# Altium footprint library Connectors.PcbLib: 17 footprints (part 1 of 2)
Each footprint in its own frame and in the unit in brackets; x right, y up, seen from the top. Pads: shape width x height; smd on the part's side, far side on the other; paste and mask are expansions set on the pad; w line width, h text height; cw(c..) or ccw(c..) is an arc to the next point about the centre after c.
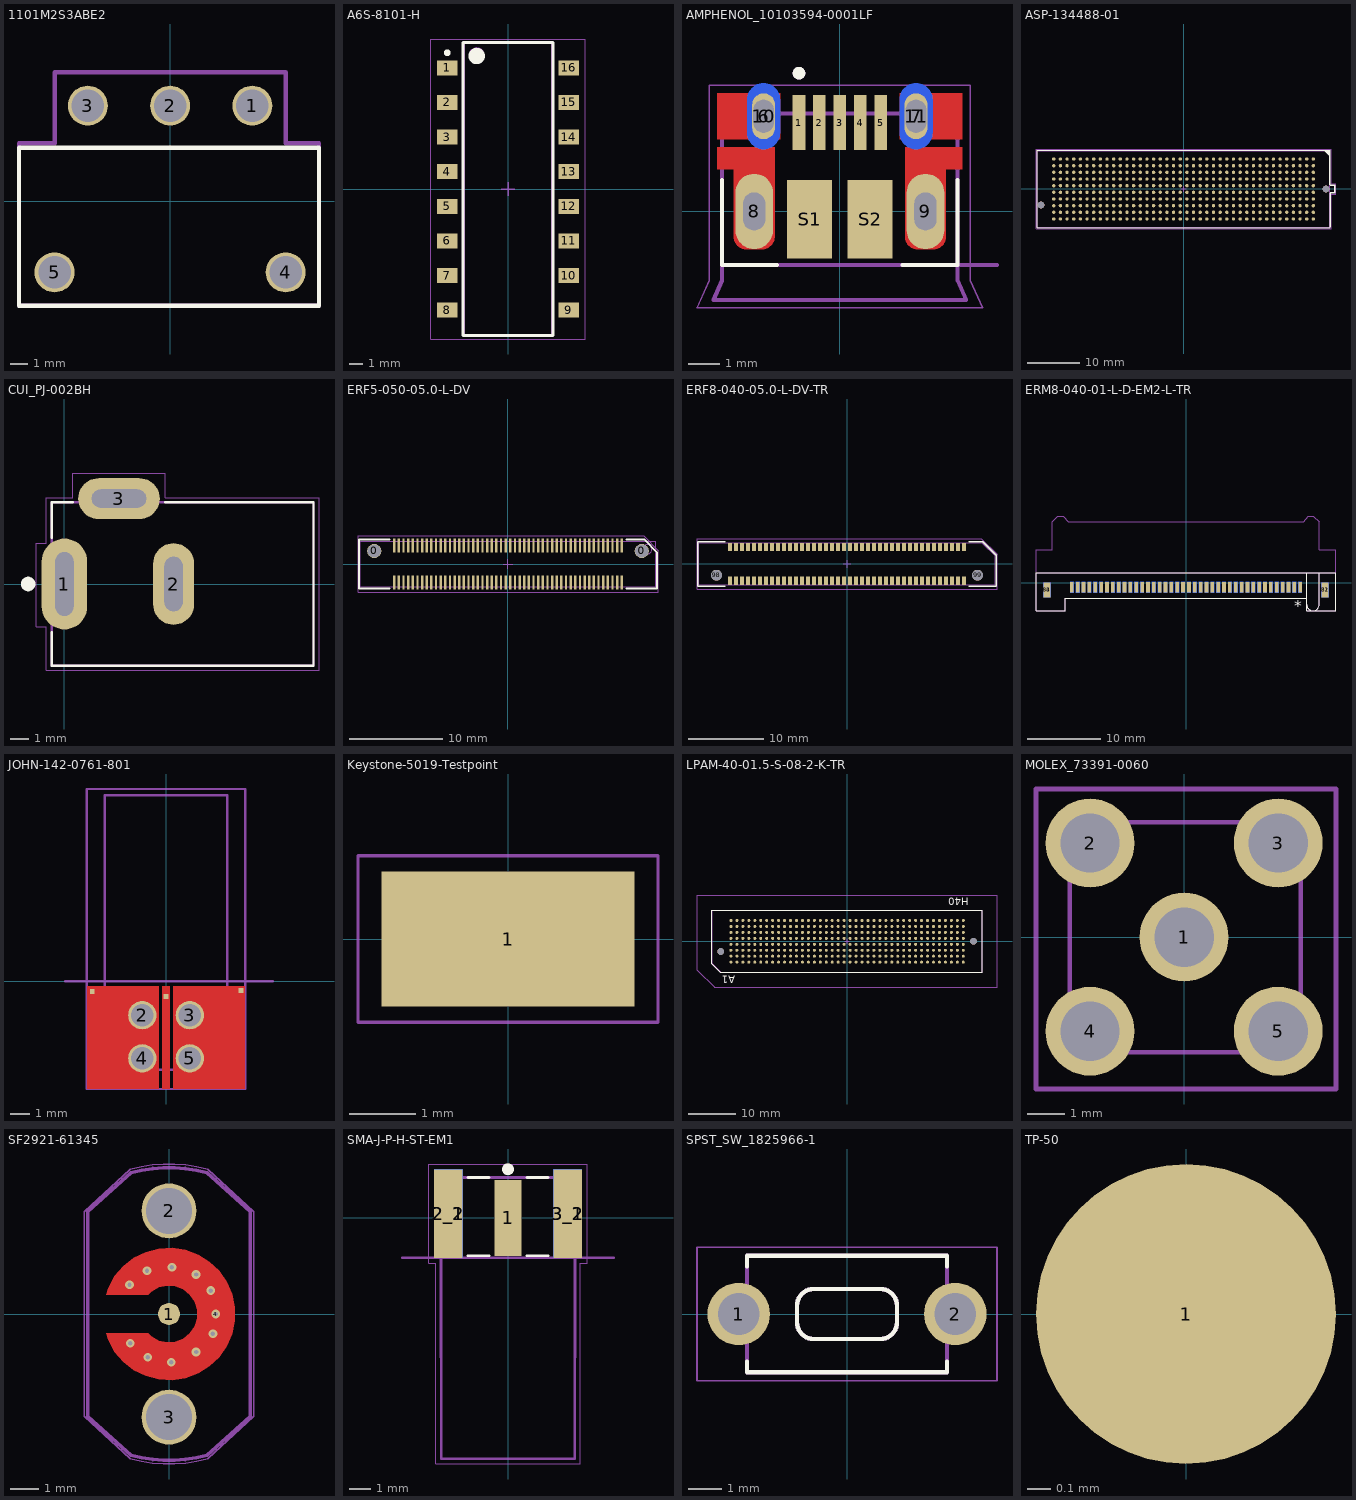
[diagram p0: the footprints below, top view; thin cyan lines are the x and y axes]

## 1101M2S3ABE2 [mil] "Horizontal Actuation SPDT Right Angle, PC THRU-HOLE"
height 260
pads (5):
  round 90 hole 73: 1(185,215) 2(0,215) 3(-185,215) 4(260,-160) 5(-260,-160)
Top Overlay:
  lines w10: -340,-235 335,-235 335,120 -340,120 -340,-235
Mechanical 13:
  lines w10: -340,-235 335,-235 335,130 260,130 260,290 -260,290 -260,130 -340,130 -340,-235
Mechanical 15:
  lines w10: -340,-235 -340,130 -260,130 -260,290 260,290 260,130 335,130 335,-235 -340,-235

## A6S-8101-H [mm] "SWITCH SLIDE DIP SPST, 8 Positions, IPC Medium Density"
height 3.1
pads (16):
  rect 1.5x1.1 smd: 1(-4.45,8.89) 2(-4.45,6.35) 3(-4.45,3.81) 4(-4.45,1.27) 5(-4.45,-1.27) 6(-4.45,-3.81) 7(-4.45,-6.35) 8(-4.45,-8.89) 9(4.45,-8.89) 10(4.45,-6.35) 11(4.45,-3.81) 12(4.45,-1.27) 13(4.45,1.27) 14(4.45,3.81) 15(4.45,6.35) 16(4.45,8.89)
Top Overlay:
  circle w0.25: c-4.45,9.99 r0.125
  circle w0.6: c-2.3,9.75 r0.3
  lines w0.2: -3.3,-10.75 -3.3,10.75 3.3,10.75 3.3,-10.75 -3.3,-10.75
Mechanical 13:
  circle w0.1: c-2.3,9.85 r0.5
  lines w0.1: -3.2,-10.75 -3.2,10.75 3.2,10.75 3.2,-10.75 -3.2,-10.75
Mechanical 15:
  lines w0.05: -5.65,-11 -5.65,11 5.65,11 5.65,-11 -5.65,-11
  lines w0.1: -0.5,0 0.5,0 ; 0,-0.5 0,0.5
3D body: height 3.1, standoff 0.25, extent -3.2,-10.75 3.2,10.75

## AMPHENOL_10103594-0001LF [mm] "USB - micro B USB 2.0 Receptacle Connector 5 Position Surface Mount, Right Angle; Through Hole"
pads (13):
  rect 0.4x1.75 smd mask+0.025: 1(-1.3,2.825) 2(-0.65,2.825) 3(0,2.825) 4(0.65,2.825) 5(1.3,2.825)
  oval 0.73x1.46 hole 0.65 slot 1.05 at 90 deg mask+0.025: 6(-2.425,3.03) 7(2.425,3.03)
  oval 1.2x2.4 hole 0.7 slot 1.2 at 90 deg mask+0.025: 8(-2.725,0) 9(2.725,0)
  oval 1.05x2.1 smd far side paste-2 mask+0: 10(-2.425,3.03) 11(2.425,3.03)
  rect 1.425x2.5 smd mask+0.025: S1(-0.962,-0.25) S2(0.962,-0.25)
Top Layer:
  region: 3.9,1.35 3.375,1.35 3.375,-0.8 3.374,-0.821 3.373,-0.842 3.37,-0.863 3.366,-0.883 3.361,-0.904 3.355,-0.924 3.348,-0.943 3.34,-0.963 3.331,-0.982 3.321,-1 3.31,-1.018 3.299,-1.035 3.286,-1.052 3.272,-1.068 3.258,-1.083 3.243,-1.097 3.227,-1.111 3.21,-1.124 3.193,-1.135 3.175,-1.146 3.157,-1.156 3.138,-1.165 3.118,-1.173 3.099,-1.18 3.079,-1.186 3.058,-1.191 3.038,-1.195 3.017,-1.198 2.996,-1.199 2.975,-1.2 2.475,-1.2 2.454,-1.199 2.433,-1.198 2.412,-1.195 2.392,-1.191 2.371,-1.186 2.351,-1.18 2.332,-1.173 2.312,-1.165 2.293,-1.156 2.275,-1.146 2.257,-1.135 2.24,-1.124 2.223,-1.111 2.207,-1.097 2.192,-1.083 2.178,-1.068 2.164,-1.052 2.151,-1.035 2.14,-1.018 2.129,-1 2.119,-0.982 2.11,-0.963 2.102,-0.943 2.095,-0.924 2.089,-0.904 2.084,-0.883 2.08,-0.863 2.077,-0.842 2.076,-0.821 2.075,-0.8 2.075,2.05 3.9,2.05
  region: -2.075,-0.8 -2.076,-0.821 -2.077,-0.842 -2.08,-0.863 -2.084,-0.883 -2.089,-0.904 -2.095,-0.924 -2.102,-0.943 -2.11,-0.963 -2.119,-0.982 -2.129,-1 -2.14,-1.018 -2.151,-1.035 -2.164,-1.052 -2.178,-1.068 -2.192,-1.083 -2.207,-1.097 -2.223,-1.111 -2.24,-1.124 -2.257,-1.135 -2.275,-1.146 -2.293,-1.156 -2.312,-1.165 -2.332,-1.173 -2.351,-1.18 -2.371,-1.186 -2.392,-1.191 -2.412,-1.195 -2.433,-1.198 -2.454,-1.199 -2.475,-1.2 -2.975,-1.2 -2.996,-1.199 -3.017,-1.198 -3.038,-1.195 -3.058,-1.191 -3.079,-1.186 -3.099,-1.18 -3.118,-1.173 -3.138,-1.165 -3.157,-1.156 -3.175,-1.146 -3.193,-1.135 -3.21,-1.124 -3.227,-1.111 -3.243,-1.097 -3.258,-1.083 -3.272,-1.068 -3.286,-1.052 -3.299,-1.035 -3.31,-1.018 -3.321,-1 -3.331,-0.982 -3.34,-0.963 -3.348,-0.943 -3.355,-0.924 -3.361,-0.904 -3.366,-0.883 -3.37,-0.863 -3.373,-0.842 -3.374,-0.821 -3.375,-0.8 -3.375,1.35 -3.9,1.35 -3.9,2.05 -2.075,2.05
  region: 3.9,2.3 1.9,2.3 1.9,3.76 3.9,3.76
  region: -1.9,2.3 -3.9,2.3 -3.9,3.76 -1.9,3.76
Top Overlay:
  circle w0.2: c-1.3,4.4 r0.1
  lines w0.127: -3.75,1 -3.75,-1.7 -1.995,-1.7 ; 1.995,-1.7 3.75,-1.7 3.75,1
Mechanical 1:
  lines w0: -2.745,-0.6 -2.705,-0.6 ; -2.745,0.6 -2.705,0.6 ; 2.705,-0.6 2.745,-0.6 ; 2.705,0.6 2.745,0.6
Mechanical 13:
  circle w0.2: c-1.3,4.4 r0.1
  lines w0.127: 5,-1.7 -3.75,-1.7 ; -3.75,-1.7 -3.75,-2.2 -4.02,-2.82 4.02,-2.82 3.75,-2.2 3.75,3.11 -3.75,3.11 -3.75,-1.7
  text "PCB EDGE" at 4.5,-1.5 h0.81
Mechanical 15:
  lines w0.05: -4.545,-3.07 -4.15,-2.2 -4.15,4.01 4.15,4.01 4.15,-2.2 4.545,-3.07 -4.545,-3.07
3D body "step_temp.STEP": height 3.13, standoff -0.47, extent -4.02,-4.149 4.02,1.884

## ASP-134488-01 [mm] "0.50 Pitch Terminal Array Assembly"
height 7.11
pads (400):
  round 0.64 smd: A1(24.765,5.715) A2(23.495,5.715) A3(22.225,5.715) A4(20.955,5.715) A5(19.685,5.715) A6(18.415,5.715) A7(17.145,5.715) A8(15.875,5.715) A9(14.605,5.715) A10(13.335,5.715) A11(12.065,5.715) A12(10.795,5.715) A13(9.525,5.715) A14(8.255,5.715) A15(6.985,5.715) A16(5.715,5.715) A17(4.445,5.715) A18(3.175,5.715) A19(1.905,5.715) A20(0.635,5.715) A21(-0.635,5.715) A22(-1.905,5.715) A23(-3.175,5.715) A24(-4.445,5.715) A25(-5.715,5.715) A26(-6.985,5.715) A27(-8.255,5.715) A28(-9.525,5.715) A29(-10.795,5.715) A30(-12.065,5.715) A31(-13.335,5.715) A32(-14.605,5.715) A33(-15.875,5.715) A34(-17.145,5.715) A35(-18.415,5.715) A36(-19.685,5.715) A37(-20.955,5.715) A38(-22.225,5.715) A39(-23.495,5.715) A40(-24.765,5.715) B1(24.765,4.445) B2(23.495,4.445) B3(22.225,4.445) B4(20.955,4.445) B5(19.685,4.445) B6(18.415,4.445) B7(17.145,4.445) B8(15.875,4.445) B9(14.605,4.445) B10(13.335,4.445) B11(12.065,4.445) B12(10.795,4.445) B13(9.525,4.445) B14(8.255,4.445) B15(6.985,4.445) B16(5.715,4.445) B17(4.445,4.445) B18(3.175,4.445) B19(1.905,4.445) B20(0.635,4.445) B21(-0.635,4.445) B22(-1.905,4.445) B23(-3.175,4.445) B24(-4.445,4.445) B25(-5.715,4.445) B26(-6.985,4.445) B27(-8.255,4.445) B28(-9.525,4.445) B29(-10.795,4.445) B30(-12.065,4.445) B31(-13.335,4.445) B32(-14.605,4.445) B33(-15.875,4.445) B34(-17.145,4.445) B35(-18.415,4.445) B36(-19.685,4.445) B37(-20.955,4.445) B38(-22.225,4.445) B39(-23.495,4.445) B40(-24.765,4.445) C1(24.765,3.175) C2(23.495,3.175) C3(22.225,3.175) C4(20.955,3.175) C5(19.685,3.175) C6(18.415,3.175) C7(17.145,3.175) C8(15.875,3.175) C9(14.605,3.175) C10(13.335,3.175) C11(12.065,3.175) C12(10.795,3.175) C13(9.525,3.175) C14(8.255,3.175) C15(6.985,3.175) C16(5.715,3.175) C17(4.445,3.175) C18(3.175,3.175) C19(1.905,3.175) C20(0.635,3.175) C21(-0.635,3.175) C22(-1.905,3.175) C23(-3.175,3.175) C24(-4.445,3.175) C25(-5.715,3.175) C26(-6.985,3.175) C27(-8.255,3.175) C28(-9.525,3.175) C29(-10.795,3.175) C30(-12.065,3.175) C31(-13.335,3.175) C32(-14.605,3.175) C33(-15.875,3.175) C34(-17.145,3.175) C35(-18.415,3.175) C36(-19.685,3.175) C37(-20.955,3.175) C38(-22.225,3.175) C39(-23.495,3.175) C40(-24.765,3.175) D1(24.765,1.905) D2(23.495,1.905) D3(22.225,1.905) D4(20.955,1.905) D5(19.685,1.905) D6(18.415,1.905) D7(17.145,1.905) D8(15.875,1.905) D9(14.605,1.905) D10(13.335,1.905) D11(12.065,1.905) D12(10.795,1.905) D13(9.525,1.905) D14(8.255,1.905) D15(6.985,1.905) D16(5.715,1.905) D17(4.445,1.905) D18(3.175,1.905) D19(1.905,1.905) D20(0.635,1.905) D21(-0.635,1.905) D22(-1.905,1.905) D23(-3.175,1.905) D24(-4.445,1.905) D25(-5.715,1.905) D26(-6.985,1.905) D27(-8.255,1.905) D28(-9.525,1.905) D29(-10.795,1.905) D30(-12.065,1.905) D31(-13.335,1.905) D32(-14.605,1.905) D33(-15.875,1.905) D34(-17.145,1.905) D35(-18.415,1.905) D36(-19.685,1.905) D37(-20.955,1.905) D38(-22.225,1.905) D39(-23.495,1.905) D40(-24.765,1.905) E1(24.765,0.635) E2(23.495,0.635) E3(22.225,0.635) E4(20.955,0.635) E5(19.685,0.635) E6(18.415,0.635) E7(17.145,0.635) E8(15.875,0.635) E9(14.605,0.635) E10(13.335,0.635) E11(12.065,0.635) E12(10.795,0.635) E13(9.525,0.635) E14(8.255,0.635) E15(6.985,0.635) E16(5.715,0.635) E17(4.445,0.635) E18(3.175,0.635) E19(1.905,0.635) E20(0.635,0.635) E21(-0.635,0.635) E22(-1.905,0.635) E23(-3.175,0.635) E24(-4.445,0.635) E25(-5.715,0.635) E26(-6.985,0.635) E27(-8.255,0.635) E28(-9.525,0.635) E29(-10.795,0.635) E30(-12.065,0.635) E31(-13.335,0.635) E32(-14.605,0.635) E33(-15.875,0.635) E34(-17.145,0.635) E35(-18.415,0.635) E36(-19.685,0.635) E37(-20.955,0.635) E38(-22.225,0.635) E39(-23.495,0.635) E40(-24.765,0.635) F1(24.765,-0.635) F2(23.495,-0.635) F3(22.225,-0.635) F4(20.955,-0.635) F5(19.685,-0.635) F6(18.415,-0.635) F7(17.145,-0.635) F8(15.875,-0.635) F9(14.605,-0.635) F10(13.335,-0.635) F11(12.065,-0.635) F12(10.795,-0.635) F13(9.525,-0.635) F14(8.255,-0.635) F15(6.985,-0.635) F16(5.715,-0.635) F17(4.445,-0.635) F18(3.175,-0.635) F19(1.905,-0.635) F20(0.635,-0.635) F21(-0.635,-0.635) F22(-1.905,-0.635) F23(-3.175,-0.635) F24(-4.445,-0.635) F25(-5.715,-0.635) F26(-6.985,-0.635) F27(-8.255,-0.635) F28(-9.525,-0.635) F29(-10.795,-0.635) F30(-12.065,-0.635) F31(-13.335,-0.635) F32(-14.605,-0.635) F33(-15.875,-0.635) F34(-17.145,-0.635) F35(-18.415,-0.635) F36(-19.685,-0.635) F37(-20.955,-0.635) F38(-22.225,-0.635) F39(-23.495,-0.635) F40(-24.765,-0.635) G1(24.765,-1.905) G2(23.495,-1.905) G3(22.225,-1.905) G4(20.955,-1.905) G5(19.685,-1.905) G6(18.415,-1.905) G7(17.145,-1.905) G8(15.875,-1.905) G9(14.605,-1.905) G10(13.335,-1.905) G11(12.065,-1.905) G12(10.795,-1.905) G13(9.525,-1.905) G14(8.255,-1.905) G15(6.985,-1.905) G16(5.715,-1.905) G17(4.445,-1.905) G18(3.175,-1.905) G19(1.905,-1.905) G20(0.635,-1.905) G21(-0.635,-1.905) G22(-1.905,-1.905) G23(-3.175,-1.905) G24(-4.445,-1.905) G25(-5.715,-1.905) G26(-6.985,-1.905) G27(-8.255,-1.905) G28(-9.525,-1.905) G29(-10.795,-1.905) G30(-12.065,-1.905) G31(-13.335,-1.905) G32(-14.605,-1.905) G33(-15.875,-1.905) G34(-17.145,-1.905) G35(-18.415,-1.905) G36(-19.685,-1.905) G37(-20.955,-1.905) G38(-22.225,-1.905) G39(-23.495,-1.905) G40(-24.765,-1.905) H1(24.765,-3.175) H2(23.495,-3.175) H3(22.225,-3.175) H4(20.955,-3.175) H5(19.685,-3.175) H6(18.415,-3.175) H7(17.145,-3.175) H8(15.875,-3.175) H9(14.605,-3.175) H10(13.335,-3.175) H11(12.065,-3.175) H12(10.795,-3.175) H13(9.525,-3.175) H14(8.255,-3.175) H15(6.985,-3.175) H16(5.715,-3.175) H17(4.445,-3.175) H18(3.175,-3.175) H19(1.905,-3.175) H20(0.635,-3.175) H21(-0.635,-3.175) H22(-1.905,-3.175) H23(-3.175,-3.175) H24(-4.445,-3.175) H25(-5.715,-3.175) H26(-6.985,-3.175) H27(-8.255,-3.175) H28(-9.525,-3.175) H29(-10.795,-3.175) H30(-12.065,-3.175) H31(-13.335,-3.175) H32(-14.605,-3.175) H33(-15.875,-3.175) H34(-17.145,-3.175) H35(-18.415,-3.175) H36(-19.685,-3.175) H37(-20.955,-3.175) H38(-22.225,-3.175) H39(-23.495,-3.175) H40(-24.765,-3.175) J1(24.765,-4.445) J2(23.495,-4.445) J3(22.225,-4.445) J4(20.955,-4.445) J5(19.685,-4.445) J6(18.415,-4.445) J7(17.145,-4.445) J8(15.875,-4.445) J9(14.605,-4.445) J10(13.335,-4.445) J11(12.065,-4.445) J12(10.795,-4.445) J13(9.525,-4.445) J14(8.255,-4.445) J15(6.985,-4.445) J16(5.715,-4.445) J17(4.445,-4.445) J18(3.175,-4.445) J19(1.905,-4.445) J20(0.635,-4.445) J21(-0.635,-4.445) J22(-1.905,-4.445) J23(-3.175,-4.445) J24(-4.445,-4.445) J25(-5.715,-4.445) J26(-6.985,-4.445) J27(-8.255,-4.445) J28(-9.525,-4.445) J29(-10.795,-4.445) J30(-12.065,-4.445) J31(-13.335,-4.445) J32(-14.605,-4.445) J33(-15.875,-4.445) J34(-17.145,-4.445) J35(-18.415,-4.445) J36(-19.685,-4.445) J37(-20.955,-4.445) J38(-22.225,-4.445) J39(-23.495,-4.445) J40(-24.765,-4.445) K1(24.765,-5.715) K2(23.495,-5.715) K3(22.225,-5.715) K4(20.955,-5.715) K5(19.685,-5.715) K6(18.415,-5.715) K7(17.145,-5.715) K8(15.875,-5.715) K9(14.605,-5.715) K10(13.335,-5.715) K11(12.065,-5.715) K12(10.795,-5.715) K13(9.525,-5.715) K14(8.255,-5.715) K15(6.985,-5.715) K16(5.715,-5.715) K17(4.445,-5.715) K18(3.175,-5.715) K19(1.905,-5.715) K20(0.635,-5.715) K21(-0.635,-5.715) K22(-1.905,-5.715) K23(-3.175,-5.715) K24(-4.445,-5.715) K25(-5.715,-5.715) K26(-6.985,-5.715) K27(-8.255,-5.715) K28(-9.525,-5.715) K29(-10.795,-5.715) K30(-12.065,-5.715) K31(-13.335,-5.715) K32(-14.605,-5.715) K33(-15.875,-5.715) K34(-17.145,-5.715) K35(-18.415,-5.715) K36(-19.685,-5.715) K37(-20.955,-5.715) K38(-22.225,-5.715) K39(-23.495,-5.715) K40(-24.765,-5.715)
via 27.19,0 diameter 1.27 hole 1.27
via -27.19,-3.05 diameter 1.27 hole 1.27
Top Overlay:
  region: 27.822,6.301 26.822,7.301 27.822,7.301
  lines w0.2: 27.9,-7.35 -27.9,-7.35 -27.9,7.35 27.9,7.35
  lines w0.254: 27.9,0.802 27.9,7.35 ; 27.94,-7.31 27.94,-0.762 28.829,-0.762 28.829,0.762 27.94,0.762
Mechanical 13:
  lines w0.1: -27.89,-7.34 27.89,-7.34 27.89,7.34 -27.89,7.34 -27.89,-7.34
Mechanical 15:
  lines w0.05: -28.15,-7.6 28.15,-7.6 28.15,-1.016 29.083,-1.016 29.083,1.016 28.15,1.016 28.15,7.6 -28.15,7.6 -28.15,-7.6
  lines w0.1: -0.5,0 0.5,0 ; 0,-0.5 0,0.5
3D body: height 7.11, standoff 1.02, extent -27.89,-7.34 27.89,7.34

## CUI_PJ-002BH [mm] "ONN PWR JACK 2.5X5.5MM SOLDER"
pads (3):
  oval 2.5x5 hole 1 slot 3.5 at 90 deg: 1(0,0)
  oval 2.25x4.5 hole 1 slot 3 at 90 deg: 2(6,0)
  oval 4.5x2.25 hole 1 slot 3 at 0 deg: 3(3,4.7)
Top Overlay:
  circle w0.4: c-2,0 r0.2
  lines w0.127: -0.7,-2.65 -0.7,-4.5 13.7,-4.5 13.7,4.5 5.55,4.5 ; -0.7,2.55 -0.7,4.5 0.45,4.5
Mechanical 1:
  lines w0: -0.5,-1.75 0.5,-1.75 0.5,1.75 -0.5,1.75 -0.5,-1.75 ; 1.5,4.2 1.5,5.2 4.5,5.2 4.5,4.2 1.5,4.2 ; 5.5,-1.5 6.5,-1.5 6.5,1.5 5.5,1.5 5.5,-1.5
Mechanical 13:
  lines w0.127: -0.7,-4.5 13.7,-4.5 ; -0.7,-4.5 -0.7,4.5 ; -0.7,-4.5 13.7,-4.5 ; -0.7,-4.5 -0.7,4.5 ; -0.7,4.5 13.7,4.5 ; -0.7,4.5 13.7,4.5 ; 13.7,-4.5 13.7,4.5 ; 13.7,-4.5 13.7,4.5
Mechanical 15:
  lines w0.05: -1.55,-2.35 -1.55,2.25 -1,2.25 -1,4.75 0.45,4.75 0.45,6.1 5.55,6.1 5.55,4.75 14,4.75 14,-4.75 -1,-4.75 -1,-2.35 -1.55,-2.35

## ERF5-050-05.0-L-DV [mm] "0.50 mm Edge Rate® Rugged High-Speed Socket Strip"
height 4.73
pads (102):
  round 1.53 hole 1.45 unplated paste-2539.97 mask+0: 0(-14.4,1.4) 0(14.4,1.4)
  rect 0.254x1.5 smd mask+0.051: 1(12.25,1.975) 2(12.25,-1.975) 3(11.75,1.975) 4(11.75,-1.975) 5(11.25,1.975) 6(11.25,-1.975) 7(10.75,1.975) 8(10.75,-1.975) 9(10.25,1.975) 10(10.25,-1.975) 11(9.75,1.975) 12(9.75,-1.975) 13(9.25,1.975) 14(9.25,-1.975) 15(8.75,1.975) 16(8.75,-1.975) 17(8.25,1.975) 18(8.25,-1.975) 19(7.75,1.975) 20(7.75,-1.975) 21(7.25,1.975) 22(7.25,-1.975) 23(6.75,1.975) 24(6.75,-1.975) 25(6.25,1.975) 26(6.25,-1.975) 27(5.75,1.975) 28(5.75,-1.975) 29(5.25,1.975) 30(5.25,-1.975) 31(4.75,1.975) 32(4.75,-1.975) 33(4.25,1.975) 34(4.25,-1.975) 35(3.75,1.975) 36(3.75,-1.975) 37(3.25,1.975) 38(3.25,-1.975) 39(2.75,1.975) 40(2.75,-1.975) 41(2.25,1.975) 42(2.25,-1.975) 43(1.75,1.975) 44(1.75,-1.975) 45(1.25,1.975) 46(1.25,-1.975) 47(0.75,1.975) 48(0.75,-1.975) 49(0.25,1.975) 50(0.25,-1.975) 51(-0.25,1.975) 52(-0.25,-1.975) 53(-0.75,1.975) 54(-0.75,-1.975) 55(-1.25,1.975) 56(-1.25,-1.975) 57(-1.75,1.975) 58(-1.75,-1.975) 59(-2.25,1.975) 60(-2.25,-1.975) 61(-2.75,1.975) 62(-2.75,-1.975) 63(-3.25,1.975) 64(-3.25,-1.975) 65(-3.75,1.975) 66(-3.75,-1.975) 67(-4.25,1.975) 68(-4.25,-1.975) 69(-4.75,1.975) 70(-4.75,-1.975) 71(-5.25,1.975) 72(-5.25,-1.975) 73(-5.75,1.975) 74(-5.75,-1.975) 75(-6.25,1.975) 76(-6.25,-1.975) 77(-6.75,1.975) 78(-6.75,-1.975) 79(-7.25,1.975) 80(-7.25,-1.975) 81(-7.75,1.975) 82(-7.75,-1.975) 83(-8.25,1.975) 84(-8.25,-1.975) 85(-8.75,1.975) 86(-8.75,-1.975) 87(-9.25,1.975) 88(-9.25,-1.975) 89(-9.75,1.975) 90(-9.75,-1.975) 91(-10.25,1.975) 92(-10.25,-1.975) 93(-10.75,1.975) 94(-10.75,-1.975) 95(-11.25,1.975) 96(-11.25,-1.975) 97(-11.75,1.975) 98(-11.75,-1.975) 99(-12.25,1.975) 100(-12.25,-1.975)
Top Overlay:
  lines w0.2: -12.777,-2.625 -16.05,-2.625 -16.05,2.625 -12.777,2.625 ; 12.777,-2.625 16.05,-2.625 16.05,1.225 14.7,2.625 12.777,2.625
Mechanical 13:
  circle w0.1: c15,1.575 r0.5
  lines w0.1: -15.9,-2.475 -15.9,2.475 15.9,2.475 15.9,-2.475 -15.9,-2.475
Mechanical 15:
  lines w0.05: -16.15,-3.06 -16.15,3.06 14.6,3.06 16.15,1.45 16.15,-3.06 -16.15,-3.06
  lines w0.1: -0.5,0 0.5,0 ; 0,-0.5 0,0.5
3D body: height 4.73, standoff 0.13, extent -15.9,-2.475 15.9,2.475

## ERF8-040-05.0-L-DV-TR [mm] "0.80 mm Edge Rate® Rugged High-Speed Socket Strip"
height 7.25
pads (82):
  rect 0.5x1.1 smd: 1(15.6,2.25) 2(15.6,-2.25) 3(14.8,2.25) 4(14.8,-2.25) 5(14,2.25) 6(14,-2.25) 7(13.2,2.25) 8(13.2,-2.25) 9(12.4,2.25) 10(12.4,-2.25) 11(11.6,2.25) 12(11.6,-2.25) 13(10.8,2.25) 14(10.8,-2.25) 15(10,2.25) 16(10,-2.25) 17(9.2,2.25) 18(9.2,-2.25) 19(8.4,2.25) 20(8.4,-2.25) 21(7.6,2.25) 22(7.6,-2.25) 23(6.8,2.25) 24(6.8,-2.25) 25(6,2.25) 26(6,-2.25) 27(5.2,2.25) 28(5.2,-2.25) 29(4.4,2.25) 30(4.4,-2.25) 31(3.6,2.25) 32(3.6,-2.25) 33(2.8,2.25) 34(2.8,-2.25) 35(2,2.25) 36(2,-2.25) 37(1.2,2.25) 38(1.2,-2.25) 39(0.4,2.25) 40(0.4,-2.25) 41(-0.4,2.25) 42(-0.4,-2.25) 43(-1.2,2.25) 44(-1.2,-2.25) 45(-2,2.25) 46(-2,-2.25) 47(-2.8,2.25) 48(-2.8,-2.25) 49(-3.6,2.25) 50(-3.6,-2.25) 51(-4.4,2.25) 52(-4.4,-2.25) 53(-5.2,2.25) 54(-5.2,-2.25) 55(-6,2.25) 56(-6,-2.25) 57(-6.8,2.25) 58(-6.8,-2.25) 59(-7.6,2.25) 60(-7.6,-2.25) 61(-8.4,2.25) 62(-8.4,-2.25) 63(-9.2,2.25) 64(-9.2,-2.25) 65(-10,2.25) 66(-10,-2.25) 67(-10.8,2.25) 68(-10.8,-2.25) 69(-11.6,2.25) 70(-11.6,-2.25) 71(-12.4,2.25) 72(-12.4,-2.25) 73(-13.2,2.25) 74(-13.2,-2.25) 75(-14,2.25) 76(-14,-2.25) 77(-14.8,2.25) 78(-14.8,-2.25) 79(-15.6,2.25) 80(-15.6,-2.25)
  round 1.448 hole 1.448 unplated paste-2539.97: 98(-17.4,-1.5) 99(17.4,-1.5)
Top Overlay:
  lines w0.2: -16.25,-2.95 -19.9,-2.95 -19.9,2.95 -16.25,2.95 ; 16.25,-2.95 19.9,-2.95 19.9,1.182 18.132,2.95 16.25,2.95
Mechanical 13:
  lines w0.1: 18.034,2.794 19.75,1.078 19.75,-2.8 -19.75,-2.8 -19.75,2.8 18.034,2.8
Mechanical 15:
  lines w0.05: -20,-3.385 20,-3.385 20,1.3 19.479,1.821 18.436,2.864 17.915,3.385 -20,3.385 -20,-3.385
  lines w0.1: -0.5,0 0.5,0 ; 0,-0.5 0,0.5
3D body: height 7.25, standoff 0.64, extent -19.75,-2.794 19.75,2.806

## ERM8-040-01-L-D-EM2-L-TR [mm] "0.80 mm Edge Rate® Rugged High-Speed Socket Strip, Edge Mount"
pads (84):
  rect 0.5x1.45 smd paste-0.07 mask+0: 1(15.6,-0.63) 3(14.8,-0.63) 5(14,-0.63) 7(13.2,-0.63) 9(12.4,-0.63) 11(11.6,-0.63) 13(10.8,-0.63) 15(10,-0.63) 17(9.2,-0.63) 19(8.4,-0.63) 21(7.6,-0.63) 23(6.8,-0.63) 25(6,-0.63) 27(5.2,-0.63) 29(4.4,-0.63) 31(3.6,-0.63) 33(2.8,-0.63) 35(2,-0.63) 37(1.2,-0.63) 39(0.4,-0.63) 41(-0.4,-0.63) 43(-1.2,-0.63) 45(-2,-0.63) 47(-2.8,-0.63) 49(-3.6,-0.63) 51(-4.4,-0.63) 53(-5.2,-0.63) 55(-6,-0.63) 57(-6.8,-0.63) 59(-7.6,-0.63) 61(-8.4,-0.63) 63(-9.2,-0.63) 65(-10,-0.63) 67(-10.8,-0.63) 69(-11.6,-0.63) 71(-12.4,-0.63) 73(-13.2,-0.63) 75(-14,-0.63) 77(-14.8,-0.63) 79(-15.6,-0.63)
  rect 0.5x1.45 smd far side paste-0.07 mask+0: 2(15.6,-0.63) 4(14.8,-0.63) 6(14,-0.63) 8(13.2,-0.63) 10(12.4,-0.63) 12(11.6,-0.63) 14(10.8,-0.63) 16(10,-0.63) 18(9.2,-0.63) 20(8.4,-0.63) 22(7.6,-0.63) 24(6.8,-0.63) 26(6,-0.63) 28(5.2,-0.63) 30(4.4,-0.63) 32(3.6,-0.63) 34(2.8,-0.63) 36(2,-0.63) 38(1.2,-0.63) 40(0.4,-0.63) 42(-0.4,-0.63) 44(-1.2,-0.63) 46(-2,-0.63) 48(-2.8,-0.63) 50(-3.6,-0.63) 52(-4.4,-0.63) 54(-5.2,-0.63) 56(-6,-0.63) 58(-6.8,-0.63) 60(-7.6,-0.63) 62(-8.4,-0.63) 64(-9.2,-0.63) 66(-10,-0.63) 68(-10.8,-0.63) 70(-11.6,-0.63) 72(-12.4,-0.63) 74(-13.2,-0.63) 76(-14,-0.63) 78(-14.8,-0.63) 80(-15.6,-0.63)
  rect 1x2 smd paste-0.07 mask+0: 81(19,-1) 83(-19,-1)
  rect 1x2 smd far side paste-0.07 mask+0: 82(19,-1) 84(-19,-1)
Top Overlay:
  lines w0.1: 16.5,1.35 16.5,-3 ccw(c17.35,-3) 18.2,-3 18.2,1.35 ; -20.5,-3.85 -20.5,1.35 20.5,1.35 20.5,-3.85 16.5,-3.85 16.5,-2.1 -16.5,-2.1 -16.5,-3.85 -20.5,-3.85
  text "*" at 14.8,-4 h1.52
Bottom Overlay:
  lines w0.1: 16.5,1.35 16.5,-3 ccw(c17.35,-3) 18.2,-3 18.2,1.35 ; -20.5,-3.85 -20.5,1.35 20.5,1.35 20.5,-3.85 16.5,-3.85 16.5,-2.1 -16.5,-2.1 -16.5,-3.85 -20.5,-3.85
Mechanical 13:
  lines w0.1: 16.5,1.35 16.5,-3 ccw(c17.35,-3) 18.2,-3 18.2,1.35 ; 20.5,1.35 -20.5,1.35 ; -20.5,1.35 -20.5,4.5 -18.3,4.5 -18.3,8.3 -17.5,9.1 -16.8,9.1 -16.1,8.3 16.1,8.3 16.7,9.1 17.4,9.1 18.2,8.3 18.2,4.5 20.5,4.5 20.5,-3.85 16.5,-3.85 16.5,-2.1 -16.5,-2.1 -16.5,-3.85 -20.5,-3.85 -20.5,1.35

## JOHN-142-0761-801 [mil] "CONN SMA JACK STR 50OHM EDGE MNT"
pads (7):
  rect 10x10 smd paste-10 mask+4: 1(0,-31) 6(-149,-21) 7(151,-19)
  round 57 hole 45: 2(-48,-69) 3(48,-69) 4(-48,-156) 5(48,-156)
Top Layer:
  rectangle: -160,-218 -14.5,-10
  rectangle: 14.5,-218 160,-10
  rectangle: -8.5,-218 8.5,-10
Mechanical 13:
  lines w5: -204,0 216,0 ; -123.5,-179 123.5,-179 123.5,375 -123.5,375 -123.5,-179
Mechanical 15:
  lines w5: -160,-218 -160,388 160.42,388 160.42,-218 -160,-218

## Keystone-5019-Testpoint [mm] "Keystone-5019-Testpoint"
pads (1):
  rect 3.8x2.03 smd: 1(0,0)
Mechanical 15:
  lines w0.05: -2.25,-1.25 2.25,-1.25 2.25,1.25 -2.25,1.25 -2.25,-1.25

## LPAM-40-01.5-S-08-2-K-TR [mm] ".050\" LP Array™ High-Speed High-Density Low Profile Open-Pin-Field Array, Terminal"
height 7.11
pads (320):
  round 0.64 smd: A1(-24.765,-4.445) A2(-23.495,-4.445) A3(-22.225,-4.445) A4(-20.955,-4.445) A5(-19.685,-4.445) A6(-18.415,-4.445) A7(-17.145,-4.445) A8(-15.875,-4.445) A9(-14.605,-4.445) A10(-13.335,-4.445) A11(-12.065,-4.445) A12(-10.795,-4.445) A13(-9.525,-4.445) A14(-8.255,-4.445) A15(-6.985,-4.445) A16(-5.715,-4.445) A17(-4.445,-4.445) A18(-3.175,-4.445) A19(-1.905,-4.445) A20(-0.635,-4.445) A21(0.635,-4.445) A22(1.905,-4.445) A23(3.175,-4.445) A24(4.445,-4.445) A25(5.715,-4.445) A26(6.985,-4.445) A27(8.255,-4.445) A28(9.525,-4.445) A29(10.795,-4.445) A30(12.065,-4.445) A31(13.335,-4.445) A32(14.605,-4.445) A33(15.875,-4.445) A34(17.145,-4.445) A35(18.415,-4.445) A36(19.685,-4.445) A37(20.955,-4.445) A38(22.225,-4.445) A39(23.495,-4.445) A40(24.765,-4.445) B1(-24.765,-3.175) B2(-23.495,-3.175) B3(-22.225,-3.175) B4(-20.955,-3.175) B5(-19.685,-3.175) B6(-18.415,-3.175) B7(-17.145,-3.175) B8(-15.875,-3.175) B9(-14.605,-3.175) B10(-13.335,-3.175) B11(-12.065,-3.175) B12(-10.795,-3.175) B13(-9.525,-3.175) B14(-8.255,-3.175) B15(-6.985,-3.175) B16(-5.715,-3.175) B17(-4.445,-3.175) B18(-3.175,-3.175) B19(-1.905,-3.175) B20(-0.635,-3.175) B21(0.635,-3.175) B22(1.905,-3.175) B23(3.175,-3.175) B24(4.445,-3.175) B25(5.715,-3.175) B26(6.985,-3.175) B27(8.255,-3.175) B28(9.525,-3.175) B29(10.795,-3.175) B30(12.065,-3.175) B31(13.335,-3.175) B32(14.605,-3.175) B33(15.875,-3.175) B34(17.145,-3.175) B35(18.415,-3.175) B36(19.685,-3.175) B37(20.955,-3.175) B38(22.225,-3.175) B39(23.495,-3.175) B40(24.765,-3.175) C1(-24.765,-1.905) C2(-23.495,-1.905) C3(-22.225,-1.905) C4(-20.955,-1.905) C5(-19.685,-1.905) C6(-18.415,-1.905) C7(-17.145,-1.905) C8(-15.875,-1.905) C9(-14.605,-1.905) C10(-13.335,-1.905) C11(-12.065,-1.905) C12(-10.795,-1.905) C13(-9.525,-1.905) C14(-8.255,-1.905) C15(-6.985,-1.905) C16(-5.715,-1.905) C17(-4.445,-1.905) C18(-3.175,-1.905) C19(-1.905,-1.905) C20(-0.635,-1.905) C21(0.635,-1.905) C22(1.905,-1.905) C23(3.175,-1.905) C24(4.445,-1.905) C25(5.715,-1.905) C26(6.985,-1.905) C27(8.255,-1.905) C28(9.525,-1.905) C29(10.795,-1.905) C30(12.065,-1.905) C31(13.335,-1.905) C32(14.605,-1.905) C33(15.875,-1.905) C34(17.145,-1.905) C35(18.415,-1.905) C36(19.685,-1.905) C37(20.955,-1.905) C38(22.225,-1.905) C39(23.495,-1.905) C40(24.765,-1.905) D1(-24.765,-0.635) D2(-23.495,-0.635) D3(-22.225,-0.635) D4(-20.955,-0.635) D5(-19.685,-0.635) D6(-18.415,-0.635) D7(-17.145,-0.635) D8(-15.875,-0.635) D9(-14.605,-0.635) D10(-13.335,-0.635) D11(-12.065,-0.635) D12(-10.795,-0.635) D13(-9.525,-0.635) D14(-8.255,-0.635) D15(-6.985,-0.635) D16(-5.715,-0.635) D17(-4.445,-0.635) D18(-3.175,-0.635) D19(-1.905,-0.635) D20(-0.635,-0.635) D21(0.635,-0.635) D22(1.905,-0.635) D23(3.175,-0.635) D24(4.445,-0.635) D25(5.715,-0.635) D26(6.985,-0.635) D27(8.255,-0.635) D28(9.525,-0.635) D29(10.795,-0.635) D30(12.065,-0.635) D31(13.335,-0.635) D32(14.605,-0.635) D33(15.875,-0.635) D34(17.145,-0.635) D35(18.415,-0.635) D36(19.685,-0.635) D37(20.955,-0.635) D38(22.225,-0.635) D39(23.495,-0.635) D40(24.765,-0.635) E1(-24.765,0.635) E2(-23.495,0.635) E3(-22.225,0.635) E4(-20.955,0.635) E5(-19.685,0.635) E6(-18.415,0.635) E7(-17.145,0.635) E8(-15.875,0.635) E9(-14.605,0.635) E10(-13.335,0.635) E11(-12.065,0.635) E12(-10.795,0.635) E13(-9.525,0.635) E14(-8.255,0.635) E15(-6.985,0.635) E16(-5.715,0.635) E17(-4.445,0.635) E18(-3.175,0.635) E19(-1.905,0.635) E20(-0.635,0.635) E21(0.635,0.635) E22(1.905,0.635) E23(3.175,0.635) E24(4.445,0.635) E25(5.715,0.635) E26(6.985,0.635) E27(8.255,0.635) E28(9.525,0.635) E29(10.795,0.635) E30(12.065,0.635) E31(13.335,0.635) E32(14.605,0.635) E33(15.875,0.635) E34(17.145,0.635) E35(18.415,0.635) E36(19.685,0.635) E37(20.955,0.635) E38(22.225,0.635) E39(23.495,0.635) E40(24.765,0.635) F1(-24.765,1.905) F2(-23.495,1.905) F3(-22.225,1.905) F4(-20.955,1.905) F5(-19.685,1.905) F6(-18.415,1.905) F7(-17.145,1.905) F8(-15.875,1.905) F9(-14.605,1.905) F10(-13.335,1.905) F11(-12.065,1.905) F12(-10.795,1.905) F13(-9.525,1.905) F14(-8.255,1.905) F15(-6.985,1.905) F16(-5.715,1.905) F17(-4.445,1.905) F18(-3.175,1.905) F19(-1.905,1.905) F20(-0.635,1.905) F21(0.635,1.905) F22(1.905,1.905) F23(3.175,1.905) F24(4.445,1.905) F25(5.715,1.905) F26(6.985,1.905) F27(8.255,1.905) F28(9.525,1.905) F29(10.795,1.905) F30(12.065,1.905) F31(13.335,1.905) F32(14.605,1.905) F33(15.875,1.905) F34(17.145,1.905) F35(18.415,1.905) F36(19.685,1.905) F37(20.955,1.905) F38(22.225,1.905) F39(23.495,1.905) F40(24.765,1.905) G1(-24.765,3.175) G2(-23.495,3.175) G3(-22.225,3.175) G4(-20.955,3.175) G5(-19.685,3.175) G6(-18.415,3.175) G7(-17.145,3.175) G8(-15.875,3.175) G9(-14.605,3.175) G10(-13.335,3.175) G11(-12.065,3.175) G12(-10.795,3.175) G13(-9.525,3.175) G14(-8.255,3.175) G15(-6.985,3.175) G16(-5.715,3.175) G17(-4.445,3.175) G18(-3.175,3.175) G19(-1.905,3.175) G20(-0.635,3.175) G21(0.635,3.175) G22(1.905,3.175) G23(3.175,3.175) G24(4.445,3.175) G25(5.715,3.175) G26(6.985,3.175) G27(8.255,3.175) G28(9.525,3.175) G29(10.795,3.175) G30(12.065,3.175) G31(13.335,3.175) G32(14.605,3.175) G33(15.875,3.175) G34(17.145,3.175) G35(18.415,3.175) G36(19.685,3.175) G37(20.955,3.175) G38(22.225,3.175) G39(23.495,3.175) G40(24.765,3.175) H1(-24.765,4.445) H2(-23.495,4.445) H3(-22.225,4.445) H4(-20.955,4.445) H5(-19.685,4.445) H6(-18.415,4.445) H7(-17.145,4.445) H8(-15.875,4.445) H9(-14.605,4.445) H10(-13.335,4.445) H11(-12.065,4.445) H12(-10.795,4.445) H13(-9.525,4.445) H14(-8.255,4.445) H15(-6.985,4.445) H16(-5.715,4.445) H17(-4.445,4.445) H18(-3.175,4.445) H19(-1.905,4.445) H20(-0.635,4.445) H21(0.635,4.445) H22(1.905,4.445) H23(3.175,4.445) H24(4.445,4.445) H25(5.715,4.445) H26(6.985,4.445) H27(8.255,4.445) H28(9.525,4.445) H29(10.795,4.445) H30(12.065,4.445) H31(13.335,4.445) H32(14.605,4.445) H33(15.875,4.445) H34(17.145,4.445) H35(18.415,4.445) H36(19.685,4.445) H37(20.955,4.445) H38(22.225,4.445) H39(23.495,4.445) H40(24.765,4.445)
via -26.949,-2.159 diameter 1.448 hole 1.448
via 26.949,0 diameter 1.448 hole 1.448
Top Overlay:
  lines w0.254: -28.829,-4.833 -28.829,6.604 28.829,6.604 28.829,-6.604 -27.046,-6.604 -28.829,-4.833
  text "A1" at -23.876,-7.366 h1.52
  text "H40" at 25.908,9.271 h1.52
Mechanical 13:
  lines w0.254: -27.026,-6.629 -26.949,-6.629 ; -26.949,-6.629 28.778,-6.629 28.778,6.629 -28.778,6.629 -28.778,-4.801 -26.949,-6.629
Mechanical 15:
  lines w0.1: -0.5,0 0.5,0 ; 0,-0.5 0,0.5
  lines w0.254: -32.004,-6.096 -31.979,-6.096 ; -28.296,-9.804 -28.27,-9.804 ; -31.953,9.804 -31.953,-6.121 -31.953,9.804 ; -31.953,9.804 31.953,9.804 ; -31.953,9.804 31.953,9.804 ; -28.27,-9.804 -31.979,-6.121 -28.27,-9.804 ; -28.27,-9.804 31.953,-9.804 ; -28.27,-9.804 31.953,-9.804 ; 31.953,-9.804 31.953,9.804 ; 31.953,-9.804 31.953,9.804

## MOLEX_73391-0060 [mm] "CONN SMA RCPT STR 50 OHM PCB"
pads (5):
  round 2.4 hole 1.6: 1(0,0) 2(-2.54,2.54) 3(2.54,2.54) 4(-2.54,-2.54) 5(2.54,-2.54)
Mechanical 13:
  lines w0.127: -3.105,-3.105 3.105,-3.105 ; -3.1,3.1 -3.09,3.1 ; -3.09,-3.11 -3.09,3.1 ; 3.1,3.1 -3.09,3.1 ; 3.12,-3.1 3.15,-3.1 3.15,3.1
Mechanical 15:
  lines w0.127: -4,-4.1 -4,4 4.1,4 4.1,-4.1 -4,-4.1

## SF2921-61345 [mil] "SMA JACK 2 HOLE FLANGE  WITH 0-80 UNF THREAD"
pads (4):
  round 30 smd paste-99999 mask+0: 1(0,0)
  round 75 hole 63: 2(0,141) 3(0,-141)
  round 10 smd paste-99999 mask+4: 4(64,0)
via -53,-40 diameter 12 hole 6
via 64,0 diameter 12 hole 6
via -29,-59 diameter 12 hole 6
via 3,-66 diameter 12 hole 6
via 37,-52 diameter 12 hole 6
via -54,40 diameter 12 hole 6
via 60,-27 diameter 12 hole 6
via 37,54 diameter 12 hole 6
via 57,32 diameter 12 hole 6
via -30,59 diameter 12 hole 6
via 4,64 diameter 12 hole 6
Top Layer:
  region: -86.01,-26.5 -28.61,-26.5 -24.34,-30.47 -14.28,-36.29 -2.94,-38.89 8.66,-38.03 19.49,-33.78 28.58,-26.54 35.13,-16.93 38.56,-5.81 38.56,5.81 35.13,16.93 28.58,26.54 19.49,33.78 8.66,38.03 -2.94,38.89 -14.28,36.29 -24.34,30.47 -28.61,26.5 -86.01,26.5 -83.31,35.26 -74.49,51.34 -62.6,65.3 -48.15,76.59 -31.72,84.72 -13.98,89.38 4.33,90.36 22.47,87.63 39.68,81.3 55.26,71.63 68.57,59.02 79.06,43.98 86.3,27.13 90,9.17 90,-9.17 86.3,-27.13 79.06,-43.98 68.57,-59.02 55.26,-71.63 39.68,-81.3 22.47,-87.63 4.33,-90.36 -13.98,-89.38 -31.72,-84.72 -48.15,-76.59 -62.6,-65.3 -74.49,-51.34 -83.31,-35.26
Mechanical 13:
  lines w5: -111,-140 -51.76,-193.19 ccw(c0,0) 51.76,-193.19 111,-140 111,140 51.76,193.19 ccw(c0,0) -51.76,193.19 -111,140 -111,-140
Mechanical 15:
  lines w2: -116,-140 -116,140 -53.06,198.01 cw(c0,0) 53.06,198.01 116,140 116,-140 53.06,-198.01 cw(c0,0) -53.06,-198.01 -116,-140

## SMA-J-P-H-ST-EM1 [mm] "SMA-J-P-H-ST-EM1"
pads (5):
  rect 1.27x3.6 smd: 1(0,0)
  rect 1.35x4.2 smd: 2_1(-2.825,0.2) 3_1(2.825,0.2)
  rect 1.35x4.2 smd far side: 2_2(-2.825,0.2) 3_2(2.825,0.2)
Top Overlay:
  circle w0.28: c0,2.3 r0.14
  lines w0.127: -1.9,-1.8 -0.9,-1.8 ; -1.9,1.91 -0.9,1.91 ; 0.9,-1.8 1.9,-1.8 ; 0.9,1.91 1.9,1.91
Mechanical 13:
  lines w0.127: -3.175,-1.9 -3.165,-11.42 ; -3.175,-1.9 -5,-1.9 -3.175,-1.9 ; -3.175,-1.9 3.175,-1.9 ; -3.175,-1.9 -3.175,1.91 ; -3.175,-1.9 -3.165,-11.42 ; -3.175,-1.9 3.175,-1.9 ; -3.175,-1.9 -3.175,1.91 ; -3.175,1.91 3.175,1.91 ; -3.175,1.91 3.175,1.91 ; -3.165,-11.42 3.165,-11.42 ; -3.165,-11.42 3.165,-11.42 ; 3.165,-11.42 3.175,-1.9 ; 3.165,-11.42 3.175,-1.9 ; 3.175,-1.9 5,-1.9 3.175,-1.9 ; 3.175,-1.9 3.175,1.91 ; 3.175,-1.9 3.175,1.91
Mechanical 15:
  lines w0.05: -3.75,-2.15 -3.425,-2.15 -3.425,-11.67 3.425,-11.67 3.425,-2.15 3.75,-2.15 3.75,2.55 -3.75,2.55 -3.75,-2.15

## SPST_SW_1825966-1 [mm]
pads (2):
  round 1.875 hole 1.25: 1(-3.25,0) 2(3.25,0)
Top Overlay:
  lines w0.127: -3,-1.422 -3,-1.75 3,-1.75 3,-1.422 ; -3,1.422 -3,1.75 3,1.75 3,1.422 ; -1.5,-0.25 ccw(c-1,-0.25) -1,-0.75 1,-0.75 ccw(c1,-0.25) 1.5,-0.25 1.5,0.25 ccw(c1,0.25) 1,0.75 -1,0.75 ccw(c-1,0.25) -1.5,0.25 -1.5,-0.25
Mechanical 13:
  lines w0.127: -3,-1.75 -3,1.75 ; -3,-1.75 3,-1.75 ; -3,-1.75 -3,1.75 ; -3,-1.75 3,-1.75 ; -3,1.75 3,1.75 ; -3,1.75 3,1.75 ; -1.5,-0.25 ccw(c-1,-0.25) -1,-0.75 ; -1.5,-0.25 ccw(c-1,-0.25) -1,-0.75 ; -1.5,-0.25 -1.5,0.25 ; -1.5,-0.25 -1.5,0.25 ; -1.5,0.25 cw(c-1,0.25) -1,0.75 ; -1.5,0.25 cw(c-1,0.25) -1,0.75 ; -1,-0.75 1,-0.75 ; -1,-0.75 1,-0.75 ; -1,0.75 1,0.75 ; -1,0.75 1,0.75 ; 1,-0.75 ccw(c1,-0.25) 1.5,-0.25 ; 1,-0.75 ccw(c1,-0.25) 1.5,-0.25 ; 1,0.75 cw(c1,0.25) 1.5,0.25 ; 1,0.75 cw(c1,0.25) 1.5,0.25 ; 1.5,-0.25 1.5,0.25 ; 1.5,-0.25 1.5,0.25 ; 3,-1.75 3,1.75 ; 3,-1.75 3,1.75
Mechanical 15:
  lines w0.05: -4.5,-2 4.5,-2 4.5,2 -4.5,2 -4.5,-2

## TP-50 [mil] "Testpoint 50mil diameter"
pads (1):
  round 50 smd paste-25: 1(0,0)